# EAGLE library part ATTINYX4A (library dubec)
Atmel AVR® ATtiny Microcontroller IC 8-Bit 20MHz 8KB (4K x 16)
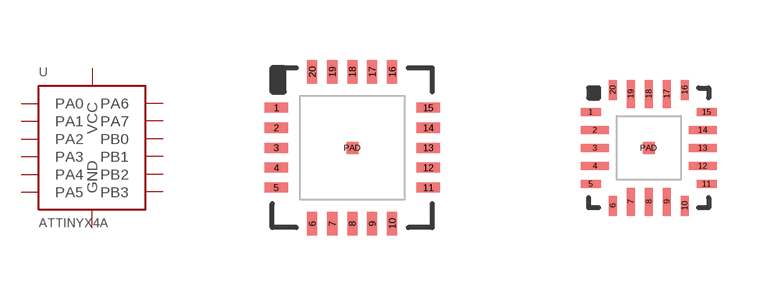
[diagram p31: symbol with the pads of 20-MLF; footprints 20-MLF, 20-VQFN]

Designator prefix U

## ATTINYX4A8MU (ADC: 8x10b; DIGIKEY_PART_#: ATTINY84A-MU-ND; EPK: 636.98; FLASH: 4K x 16; FREQ: 20MHz; MANUFACTURER: Atmel; MFG_PART_#: ATTINY84A-MU; RAM: 512 x 8; TEMP: -40°C ~ 85°C (TA); VCC: 1.8 V ~ 5.5 V)  [20-MLF]
1  PA4  pas
2  PA3  pas
3  PA2  pas
4  PA1  pas
5  PA0  pas
8  GND  pas
9  VCC  pas
11  PB0  pas
12  PB1  pas
13  PB3  pas
14  PB2  pas
15  PA7  pas
16  PA6  pas
20  PA5  pas
PAD  GND  pas

## ATTINYX4A4MMH (ADC: 8x10b; DIGIKEY_PART_#: ATTINY44A-MMH-ND; EEPROM: 256 x 8; EPK: 601.79; FLASH: 2K x 16; FREQ: 20MHz; MANUFACTURER: Atmel; MFG_PART_#: ATTINY44A-MMH; RAM: 256 x 8; TEMP: -40°C ~ 85°C (TA); VCC: 1.8 V ~ 5.5 V)  [20-VQFN]
Pads as for 20-MLF

## ATTINYX4A2MMHR (DIGIKEY_PART_#: ATTINY24A-MMHRCT-ND; EPK: 733.98; FLASH: 2KB (1K x 16); MANUFACTURER: Atmel; MFG_PART_#: ATTINY24A-MMHR)  [20-VQFN]
Pads as for 20-MLF

## Footprint 20-MLF (pad centres in mm)
smd 0.6 x 0.25: 1 -1.9,1; 2 -1.9,0.5; 3 -1.9,0; 4 -1.9,-0.5; 5 -1.9,-1; 11 1.9,-1; 12 1.9,-0.5; 13 1.9,0; 14 1.9,0.5; 15 1.9,1
smd 0.25 x 0.6: 6 -1,-1.9; 7 -0.5,-1.9; 8 0,-1.9; 9 0.5,-1.9; 10 1,-1.9; 16 1,1.9; 17 0.5,1.9; 18 0,1.9; 19 -0.5,1.9; 20 -1,1.9
smd 0.3 x 0.3: PAD 0,0

## Footprint 20-VQFN (pad centres in mm)
smd 0.5 x 0.2: 1 -1.45,0.9; 5 -1.45,-0.9; 11 1.45,-0.9; 15 1.45,0.9
smd 0.7 x 0.2: 2 -1.35,0.45; 3 -1.35,0; 4 -1.35,-0.45; 12 1.35,-0.45; 13 1.35,0; 14 1.35,0.45
smd 0.2 x 0.5: 6 -0.9,-1.45; 10 0.9,-1.45; 16 0.9,1.45; 20 -0.9,1.45
smd 0.2 x 0.7: 7 -0.45,-1.35; 8 0,-1.35; 9 0.45,-1.35; 17 0.45,1.35; 18 0,1.35; 19 -0.45,1.35
smd 0.3 x 0.3: PAD 0,0